# EAGLE library part STNS01PUR (library STNS01PUR)
Li-Ion Battery Charger with LDO DFN12EP STMicroelectronics STNS01PUR, Battery Charge Controller IC, 200mA, 12-Pin DFN Source: Datasheet <https://componentsearchengine.com/Datasheets/2/STNS01PUR.pdf>
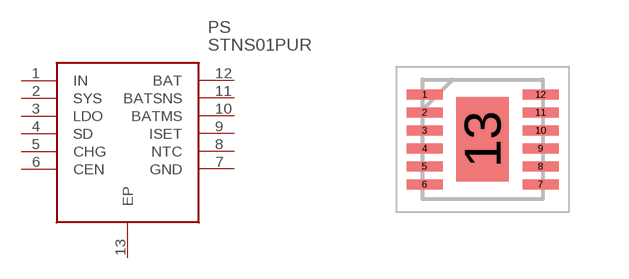
[diagram p0: symbol with the pads of SON45P300X300X80-13N; footprint SON45P300X300X80-13N]

Designator prefix PS

## STNS01PUR (Description: Li-Ion Battery Charger with LDO DFN12EP STMicroelectronics STNS01PUR, Battery Charge Controller IC, 200mA, 12-Pin DFN; Height: 0.8mm; Manufacturer_Name: STMicroelectronics; Manufacturer_Part_Number: STNS01PUR; Mouser_Part_Number: 511-STNS01PUR; Mouser_Price-Stock: https://www.mouser.com/Search/Refine.aspx?Keyword=511-STNS01PUR; RS_Part_Number: 8291431P; RS_Price-Stock: http://uk.rs-online.com/web/p/products/8291431P)  [SON45P300X300X80-13N]
1  IN  in
2  SYS  out
3  LDO  out
4  SD  in
5  CHG  out
6  CEN  in
7  GND  pwr
8  NTC  in
9  ISET  in
10  BATMS  in
11  BATSNS  in
12  BAT  out
13  EP  pwr

## Footprint SON45P300X300X80-13N (pad centres in mm)
DFN12L
smd 0.9 x 0.25: 1 -1.45,1.125; 2 -1.45,0.675; 3 -1.45,0.225; 4 -1.45,-0.225; 5 -1.45,-0.675; 6 -1.45,-1.125; 7 1.45,-1.125; 8 1.45,-0.675; 9 1.45,-0.225; 10 1.45,0.225; 11 1.45,0.675; 12 1.45,1.125
smd 1.31 x 2.12: 13 0,0